# Altium footprint library to-case.PcbLib: 113 footprints (part 2 of 8)
Each footprint in its own frame and in the unit in brackets; x right, y up, seen from the top. Pads: shape width x height; smd on the part's side, far side on the other; paste and mask are expansions set on the pad; w line width, h text height; cw(c..) or ccw(c..) is an arc to the next point about the centre after c.
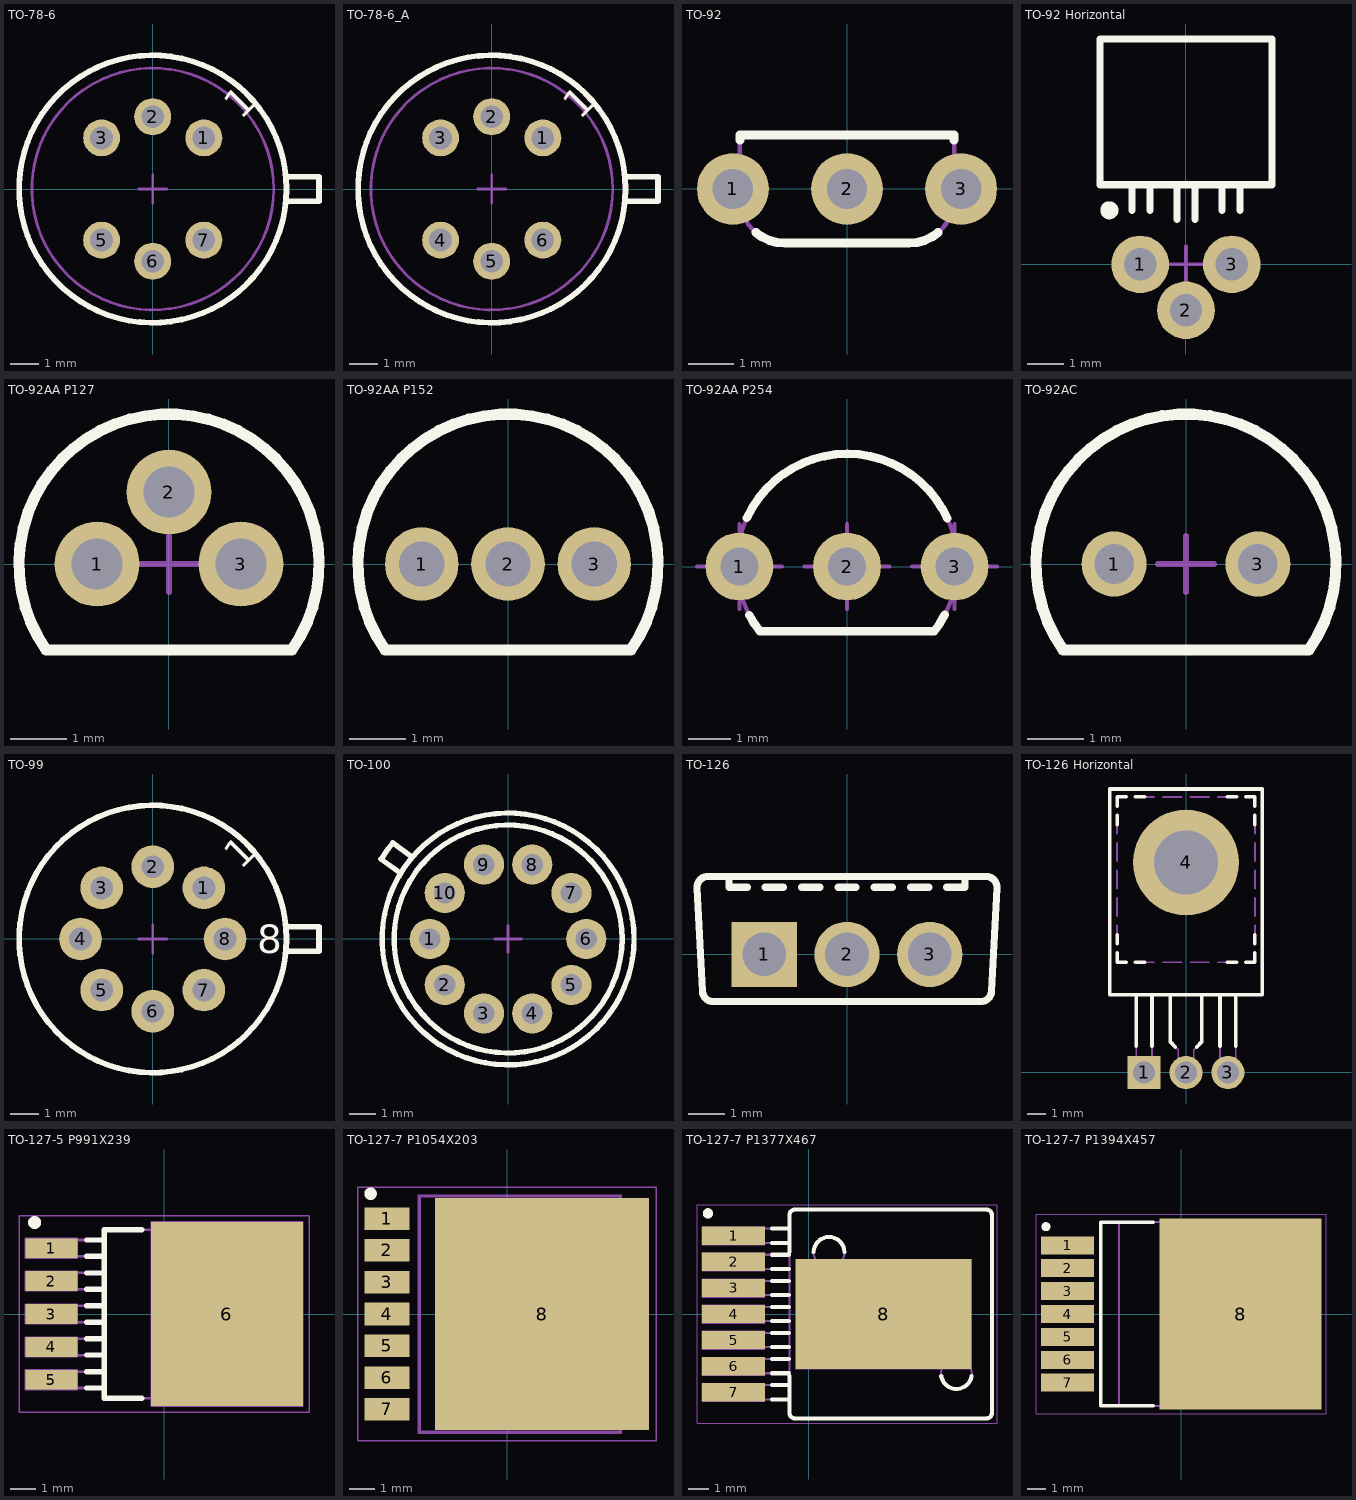
[diagram p1: the footprints below, top view; thin cyan lines are the x and y axes]

## TO-78-6 [mm] "TO-78 6 Leads(1, 2, 3, 5, 6, 7) , Body Dia. 9.4mm (max), Lead Diameter 5.08mm"
height 4.7
pads (6):
  round 1.3 hole 0.8: 1(1.796,1.796) 2(0,2.54) 3(-1.796,1.796) 5(-1.796,-1.796) 6(0,-2.54) 7(1.796,-1.796)
Top Overlay:
  circle w0.2: c0,0 r4.699
  lines w0.2: 4.679,-0.432 5.842,-0.432 5.842,0.432 4.679,0.432
  text "1" at 3.098,2.391 h1
Mechanical 1:
  circle w0.1: c0,0 r4.699
  circle w0.1: c0,0 r4.25
  lines w0.1: 4.679,-0.432 5.842,-0.432 5.842,0.432 4.679,0.432
  text "1" at 3.098,2.391 h1
Mechanical 15:
  circle w0.1: c0,0 r4.25
  circle w0.1: c0,0 r4.699
  lines w0.1: -0.5,0.001 0,0.001 ; 0,-0.499 0,0.001 ; 0,0.501 0,0.001 ; 0.5,0.001 0,0.001 ; 4.679,-0.432 5.842,-0.432 5.842,0.432 4.679,0.432
3D body "TO-78-6.stp": height 4.7, standoff -3.6, extent -4.695,-4.695 5.835,4.695

## TO-78-6_A [mm] "TO-78 6 Leads, Body Dia. 9.4mm (max), Lead Diameter 5.08mm"
height 4.7
pads (6):
  round 1.3 hole 0.8: 1(1.796,1.796) 2(0,2.54) 3(-1.796,1.796) 4(-1.796,-1.796) 5(0,-2.54) 6(1.796,-1.796)
Top Overlay:
  circle w0.2: c0,0 r4.699
  lines w0.2: 4.679,-0.432 5.842,-0.432 5.842,0.432 4.679,0.432
  text "1" at 3.098,2.391 h1
Mechanical 1:
  circle w0.1: c0,0 r4.25
  circle w0.1: c0,0 r4.699
  lines w0.1: 4.679,-0.432 5.842,-0.432 5.842,0.432 4.679,0.432
  text "1" at 3.098,2.391 h1
Mechanical 15:
  circle w0.1: c0,0 r4.25
  circle w0.1: c0,0 r4.699
  lines w0.1: -0.5,0 0,0 ; 0,-0.5 0,0 ; 0,0.5 0,0 ; 0.5,0 0,0 ; 4.679,-0.432 5.842,-0.432 5.842,0.432 4.679,0.432
3D body "TO-78-6.stp": height 4.7, standoff -3.6, extent -4.695,-4.695 5.835,4.695

## TO-92 [mm] "TO-92, Pitch 2.54mm, Flat Index, 3 In-Line, Bent Leads, Body 4.57 x 2.285mm"
height 8
pads (3):
  round 1.6 hole 0.9: 1(-2.54,0) 2(0,0) 3(2.54,0)
Top Overlay:
  lines w0.2: -2.385,1.089 -2.385,1.205 2.385,1.205 2.385,1.089 ; -2.026,-0.973 ccw(c-1.385,-0.205) -1.385,-1.205 1.385,-1.205 ccw(c1.385,-0.205) 2.026,-0.973
Mechanical 1:
  lines w0.1: -2.385,-0.205 ccw(c-1.385,-0.205) -1.385,-1.205 1.385,-1.205 ccw(c1.385,-0.205) 2.385,-0.205 2.385,1.205 -2.385,1.205 -2.385,-0.205
Mechanical 15:
  lines w0.1: -0.5,0 0,0 ; 0,-0.5 0,0 ; 0,0.5 0,0 ; 0.5,0 0,0 ; -2.385,-0.205 ccw(c-1.385,-0.205) -1.385,-1.205 1.385,-1.205 ccw(c1.385,-0.205) 2.385,-0.205 2.385,1.205 -2.385,1.205 -2.385,-0.205
3D body "IST_TO92.stp": height 8.01, standoff -3.2, extent -2.787,-1.205 2.788,1.205

## TO-92 Horizontal [mm] "TO-92, Pitch 2.54mm, Flat Index, 3 In-Line, Bent Leads, Body 4.57 x 2.285mm - Bent on the PCB"
height 2.14
pads (3):
  round 1.6 hole 0.9: 1(-1.27,0) 2(0,-1.27) 3(1.27,0)
Top Overlay:
  circle w0.25: c-2.125,1.5 r0.125
  lines w0.2: -2.385,6.215 -2.385,2.205 ; -2.385,6.25 2.385,6.25 ; -1.498,1.5 -1.498,2.205 ; -1.002,1.5 -1.002,2.205 ; -0.247,1.25 -0.247,2.205 ; 0.248,1.25 0.248,2.205 ; 1.002,1.5 1.002,2.205 ; 1.498,1.5 1.498,2.205 ; 2.385,6.215 2.385,2.205 ; -2.385,2.205 2.385,2.205 ; -2.385,2.205 2.385,2.205
Mechanical 1:
  lines w0.1: -1.498,1.5 -1.498,2.205 ; -1.002,1.5 -1.002,2.205 ; -0.248,1.25 -0.248,2.205 ; 0.248,1.25 0.248,2.205 ; 1.002,1.5 1.002,2.205 ; 1.498,1.5 1.498,2.205 ; -2.385,6.215 2.385,6.215 2.385,2.205 -2.385,2.205 -2.385,6.215 ; -2.385,6.215 -2.385,6.215
Mechanical 8:
  lines w0.1: -1.77,0 -1.27,0 ; -1.27,-0.5 -1.27,0 ; -1.27,0.5 -1.27,0 ; -0.77,0 -1.27,0 ; -0.5,-1.27 0,-1.27 ; 0,-1.77 0,-1.27 ; 0,-0.77 0,-1.27 ; 0.5,-1.27 0,-1.27
Mechanical 15:
  lines w0.1: -1.498,1.5 -1.498,2.205 ; -1.002,1.5 -1.002,2.205 ; -0.5,0 0,0 ; -0.247,1.25 -0.247,2.205 ; 0,-0.5 0,0 ; 0,0.5 0,0 ; 0.248,1.25 0.248,2.205 ; 0.5,0 0,0 ; 1.002,1.5 1.002,2.205 ; 1.498,1.5 1.498,2.205 ; -2.385,6.215 2.385,6.215 2.385,2.205 -2.385,2.205 -2.385,6.215 ; -2.385,6.215 -2.385,6.215
3D body "IST_TO92_a.stp": height 2.41, standoff -2.9, extent -2.385,-1.517 2.385,6.215

## TO-92AA P127 [mm] "TO-92 (TO-226),  Pitch 1.27mm, Flat Index, 3 In-Line, Axial Leads, Body Dia. 5.3mm, Leads Dia. 0.5mm (max)"
height 5.33
pads (3):
  round 1.5 hole 0.9: 1(-1.27,0) 2(0,1.27) 3(1.27,0)
Top Overlay:
  lines w0.2: -2.171,-1.52 cw(c0,0) 2.171,-1.52 -2.171,-1.52
Mechanical 1:
  lines w0.1: -2.171,-1.52 cw(c0,0) 2.171,-1.52 -2.171,-1.52
Mechanical 15:
  lines w0.1: -0.5,0 0,0 ; 0,-0.5 0,0 ; 0,0.5 0,0 ; 0.5,0 0,0 ; 2.171,-1.519 ccw(c0,0.001) -2.171,-1.519 2.171,-1.519
3D body "TO-92AA-P127.stp": height 9.33, standoff -3.2, extent -2.579,-1.53 2.579,2.638

## TO-92AA P152 [mm] "TO-92 (TO-226),  Pitch 1.524mm, Flat Index, 3 In-Line, Axial Leads, Body Dia. 5.3mm, Leads Dia. 0.5mm (max)"
height 5.33
pads (3):
  round 1.3 hole 0.8: 1(-1.524,0) 2(0,0) 3(1.524,0)
Top Overlay:
  lines w0.2: -2.171,-1.52 cw(c0,0) 2.171,-1.52 -2.171,-1.52
Mechanical 1:
  lines w0.1: -2.171,-1.52 cw(c0,0) 2.171,-1.52 -2.171,-1.52
Mechanical 15:
  lines w0.1: -2.171,-1.52 2.171,-1.52 ccw(c0,0) -2.171,-1.52 ; -0.5,0 0,0 ; 0,-0.5 0,0 ; 0,0.5 0,0 ; 0.5,0 0,0
3D body "TO-92AA-P152.stp": height 9.33, standoff -3.2, extent -2.587,-1.53 2.588,2.66

## TO-92AA P254 [mm] "TO-92 (TO226), Pitch 2.54mm, Flat Index, 3 In-Line, Bent Leads, Body Dia. 5.3mm"
height 9.33
pads (3):
  round 1.6 hole 0.9: 1(-2.54,0) 2(0,0) 3(2.54,0)
Top Overlay:
  lines w0.2: -2.363,1.145 cw(c0,0.059) 2.369,1.133 ; -2.302,-1.151 ccw(c0,0.059) -2.059,-1.53 2.059,-1.53 ccw(c0,0.059) 2.307,-1.141
Mechanical 1:
  lines w0.1: -2.059,-1.53 cw(c0,0.059) 2.059,-1.53 -2.059,-1.53
Mechanical 8:
  lines w0.1: -3.54,0 -2.54,0 ; -2.54,-1 -2.54,0 ; -2.54,1 -2.54,0 ; -1.54,0 -2.54,0 ; -1,0 0,0 ; 0,-1 0,0 ; 0,1 0,0 ; 1,0 0,0 ; 1.54,0 2.54,0 ; 2.54,-1 2.54,0 ; 2.54,1 2.54,0 ; 3.54,0 2.54,0
Mechanical 15:
  lines w0.1: -0.5,0 0,0 ; 0,-0.5 0,0 ; 0,0.5 0,0 ; 0.5,0 0,0 ; -2.059,-1.53 cw(c0,0.059) 2.059,-1.53 -2.059,-1.53
3D body "TO-92AA-P254.stp": height 9.33, standoff -3.2, extent -2.81,-1.53 2.81,2.638

## TO-92AC [mm] "TO-92 (TO-226), Flat Index, 2 In-Line, Pitch 2.54mm, Axial Leads, Body Dia. 5.3mm, Leads Dia. 0.5mm (max)"
height 5.33
pads (2):
  round 1.15 hole 0.7: 1(-1.27,0) 3(1.27,0)
Top Overlay:
  lines w0.2: -2.171,-1.52 cw(c0,0) 2.171,-1.52 -2.171,-1.52
Mechanical 1:
  lines w0.1: -2.171,-1.52 cw(c0,0) 2.171,-1.52 -2.171,-1.52
Mechanical 15:
  lines w0.1: -0.5,0 0,0 ; 0,-0.5 0,0 ; 0,0.5 0,0 ; 0.5,0 0,0 ; -2.171,-1.52 cw(c0,0) 2.171,-1.52 -2.171,-1.52
3D body "TO-92AC.stp": height 9.33, standoff -3.2, extent -2.659,-1.523 2.516,2.667

## TO-99 [mm] "TO-99, 8 Leads, Body Dia. 9.4mm (max)"
height 5.72
pads (8):
  round 1.5 hole 0.8: 1(1.796,1.796) 2(0,2.54) 3(-1.796,1.796) 4(-2.54,0) 5(-1.796,-1.796) 6(0,-2.54) 7(1.796,-1.796) 8(2.54,0)
Top Overlay:
  circle w0.2: c0,0 r4.699
  lines w0.2: 4.679,-0.432 5.842,-0.432 5.842,0.432 4.679,0.432
  text "8" at 3.667,-0.5 h1
  text "1" at 3.098,2.391 h1
Mechanical 1:
  circle w0.1: c0,0 r4.699
  lines w0.1: 4.679,-0.432 5.842,-0.432 5.842,0.432 4.679,0.432
Mechanical 15:
  circle w0.1: c-0.004,-0.001 r4.699
  lines w0.1: -0.5,0 0,0 ; 0,-0.5 0,0 ; 0,0.5 0,0 ; 0.5,0 0,0 ; 4.675,-0.433 5.838,-0.433 5.838,0.431 4.675,0.431
3D body "TO-99.stp": height 5.72, standoff -3.78, extent -4.7,-4.7 5.842,4.7

## TO-100 [mm] "TO-100, 10 Leads, Body Dia. 9.4mm (max)"
height 6.99
pads (10):
  round 1.5 hole 0.8: 1(-2.92,0) 2(-2.362,-1.716) 3(-0.902,-2.777) 4(0.902,-2.777) 5(2.362,-1.716) 6(2.92,0) 7(2.362,1.716) 8(0.902,2.777) 9(-0.902,2.777) 10(-2.362,1.716)
Top Overlay:
  circle w0.2: c0,0 r4.255
  circle w0.2: c0,0 r4.7
  lines w0.2: -4.747,2.985 -4.011,2.45 ; -4.737,2.978 cw(c0,0) -4.296,3.585 ; -4.306,3.592 -3.57,3.057
Mechanical 1:
  circle w0.1: c0,0 r4.255
  circle w0.1: c0,0 r4.7
  lines w0.1: -4.747,2.985 -4.011,2.45 cw(c0,0) -3.57,3.057 -4.306,3.592 ; -4.737,2.978 cw(c0,0) -4.296,3.585
Mechanical 8:
  lines w0.1: -3.42,0 -2.92,0 ; -2.92,-0.5 -2.92,0 ; -2.92,0.5 -2.92,0 ; -2.767,-2.01 -2.362,-1.716 ; -2.767,2.01 -2.362,1.716 ; -2.656,-1.312 -2.362,-1.716 ; -2.656,1.312 -2.362,1.716 ; -2.42,0 -2.92,0 ; -2.068,-2.121 -2.362,-1.716 ; -2.068,2.121 -2.362,1.716 ; -1.958,-1.422 -2.362,-1.716 ; -1.958,1.422 -2.362,1.716 ; -1.378,-2.623 -0.902,-2.777 ; -1.378,2.623 -0.902,2.777 ; -1.057,-3.253 -0.902,-2.777 ; -1.057,3.253 -0.902,2.777 ; -0.748,-2.302 -0.902,-2.777 ; -0.748,2.302 -0.902,2.777 ; -0.427,-2.932 -0.902,-2.777 ; -0.427,2.932 -0.902,2.777 ; 0.427,-2.932 0.902,-2.777 ; 0.427,2.932 0.902,2.777 ; 0.748,-2.302 0.902,-2.777 ; 0.748,2.302 0.902,2.777 ; 1.057,-3.253 0.902,-2.777 ; 1.057,3.253 0.902,2.777 ; 1.378,-2.623 0.902,-2.777 ; 1.378,2.623 0.902,2.777 ; 1.958,-1.422 2.362,-1.716 ; 1.958,1.422 2.362,1.716 ; 2.068,-2.121 2.362,-1.716 ; 2.068,2.121 2.362,1.716 ; 2.42,0 2.92,0 ; 2.656,-1.312 2.362,-1.716 ; 2.656,1.312 2.362,1.716 ; 2.767,-2.01 2.362,-1.716 ; 2.767,2.01 2.362,1.716 ; 2.92,-0.5 2.92,0 ; 2.92,0.5 2.92,0 ; 3.42,0 2.92,0
Mechanical 15:
  circle w0.1: c-0.005,-0.002 r4.7
  circle w0.1: c-0.005,-0.002 r4.255
  lines w0.1: -4.752,2.983 -4.016,2.448 cw(c-0.005,-0.002) -3.575,3.055 -4.311,3.59 ; -4.742,2.976 cw(c-0.005,-0.002) -4.301,3.583 ; -0.5,0 0,0 ; 0,-0.5 0,0 ; 0,0.5 0,0 ; 0.5,0 0,0
3D body "TO-100.stp": height 5.97, standoff -3.6, extent -4.737,-4.7 4.7,4.7

## TO-126 [mm] "TO-126 3-Terminal - Vertical Mount"
height 14.2
pads (3):
  rect 1.8x1.8 hole 1.2: 1(-2.28,0)
  round 1.8 hole 1.2: 2(0,0) 3(2.28,0)
Top Overlay:
  lines w0.2: -3.25,2.15 -3.25,1.85 -2.75,1.85 ; -2.25,1.85 -1.75,1.85 ; -1.25,1.85 -0.75,1.85 ; -0.25,1.85 0.25,1.85 ; 0.75,1.85 1.25,1.85 ; 1.75,1.85 2.25,1.85 ; 2.75,1.85 3.25,1.85 3.25,2.15 ; -4.133,1.834 cw(c-3.834,1.85) -3.834,2.15 3.834,2.15 cw(c3.834,1.85) 4.133,1.834 3.984,-1.016 cw(c3.685,-1) 3.685,-1.3 -3.685,-1.3 cw(c-3.685,-1) -3.984,-1.016 -4.133,1.834
Mechanical 1:
  lines w0.1: -3.25,2.15 -3.25,1.85 -2.75,1.85 ; -2.25,1.85 -1.75,1.85 ; -1.25,1.85 -0.75,1.85 ; -0.25,1.85 0.25,1.85 ; 0.75,1.85 1.25,1.85 ; 1.75,1.85 2.25,1.85 ; 2.75,1.85 3.25,1.85 3.25,2.15 ; -4.133,1.834 cw(c-3.834,1.85) -3.834,2.15 3.834,2.15 cw(c3.834,1.85) 4.133,1.834 3.984,-1.016 cw(c3.685,-1) 3.685,-1.3 -3.685,-1.3 cw(c-3.685,-1) -3.984,-1.016 -4.133,1.834
Mechanical 15:
  lines w0.05: -0.5,0 0.5,0 ; 0,-0.5 0,0.5
  lines w0.1: -3.25,2.15 -3.25,1.85 -2.75,1.85 ; -2.25,1.85 -1.75,1.85 ; -1.25,1.85 -0.75,1.85 ; -0.25,1.85 0.25,1.85 ; 0.75,1.85 1.25,1.85 ; 1.75,1.85 2.25,1.85 ; 2.75,1.85 3.25,1.85 3.25,2.15 ; -4.133,1.834 cw(c-3.834,1.85) -3.834,2.15 3.834,2.15 cw(c3.834,1.85) 4.133,1.834 3.984,-1.016 cw(c3.685,-1) 3.685,-1.3 -3.685,-1.3 cw(c-3.685,-1) -3.984,-1.016 -4.133,1.834
3D body "TO-126-V.stp": height 14.2, standoff -3.1, extent -4.134,-1.3 4.134,2.15

## TO-126 Horizontal [mm] "TO-126 3-Terminal - Horizontal Mount"
height 3.45
pads (4):
  rect 1.8x1.8 hole 1.2: 1(-2.28,0)
  round 1.8 hole 1.2: 2(0,0) 3(2.28,0)
  round 5.75 hole 3.5: 4(0,11.43)
Top Overlay:
  lines w0.2: -3.75,6.5 -3.75,6 -3.25,6 ; -3.75,7 -3.75,7.5 ; -3.75,13.5 -3.75,14 ; -3.75,14.5 -3.75,15 -3.25,15 ; -2.75,6 -2.25,6 ; -2.75,15 -2.25,15 ; -2.705,1.439 -2.705,4.23 ; -1.855,1.439 -1.855,4.23 ; -0.85,4.23 -0.85,1.655 -0.579,1.384 ; 0.579,1.384 0.85,1.655 0.85,4.23 ; 1.855,1.439 1.855,4.23 ; 2.25,6 2.75,6 ; 2.25,15 2.75,15 ; 2.705,1.439 2.705,4.23 ; 3.25,6 3.75,6 3.75,6.5 ; 3.25,15 3.75,15 3.75,14.5 ; 3.75,7 3.75,7.5 ; 3.75,13.5 3.75,14 ; -4.15,4.23 -4.15,15.43 4.15,15.43 4.15,4.23 -4.15,4.23
Mechanical 1:
  circle w0.1: c0,11.43 r1.75
  lines w0.1: -3.75,6.5 -3.75,6 -3.25,6 ; -3.75,7 -3.75,8 ; -3.75,8.5 -3.75,9.5 ; -3.75,10 -3.75,11 ; -3.75,11.5 -3.75,12.5 ; -3.75,13 -3.75,14 ; -3.75,14.5 -3.75,15 -3.25,15 ; -2.75,6 -1.75,6 ; -2.75,15 -1.75,15 ; -2.705,4.23 -2.705,0 -1.855,0 -1.855,4.23 ; -1.25,6 -0.25,6 ; -1.25,15 -0.25,15 ; -0.85,4.23 -0.85,1.655 -0.425,1.23 -0.425,0 0.425,0 0.425,1.23 0.85,1.655 0.85,4.23 ; 0.25,6 1.25,6 ; 0.25,15 1.25,15 ; 1.75,6 2.75,6 ; 1.75,15 2.75,15 ; 1.855,4.23 1.855,0 2.705,0 2.705,4.23 ; 3.25,6 3.75,6 3.75,6.5 ; 3.25,15 3.75,15 3.75,14.5 ; 3.75,7 3.75,8 ; 3.75,8.5 3.75,9.5 ; 3.75,10 3.75,11 ; 3.75,11.5 3.75,12.5 ; 3.75,13 3.75,14 ; -4.15,4.23 4.15,4.23 4.15,15.43 -4.15,15.43 -4.15,4.23
Mechanical 15:
  circle w0.1: c0,11.43 r1.75
  lines w0.05: -0.5,0 0.5,0 ; 0,-0.5 0,0.5
  lines w0.1: -3.75,6.5 -3.75,6 -3.25,6 ; -3.75,7 -3.75,8 ; -3.75,8.5 -3.75,9.5 ; -3.75,10 -3.75,11 ; -3.75,11.5 -3.75,12.5 ; -3.75,13 -3.75,14 ; -3.75,14.5 -3.75,15 -3.25,15 ; -2.75,6 -1.75,6 ; -2.75,15 -1.75,15 ; -2.705,4.23 -2.705,0 -1.855,0 -1.855,4.23 ; -1.25,6 -0.25,6 ; -1.25,15 -0.25,15 ; -0.85,4.23 -0.85,1.655 -0.425,1.23 -0.425,0 0.425,0 0.425,1.23 0.85,1.655 0.85,4.23 ; 0.25,6 1.25,6 ; 0.25,15 1.25,15 ; 1.75,6 2.75,6 ; 1.75,15 2.75,15 ; 1.855,4.23 1.855,0 2.705,0 2.705,4.23 ; 3.25,6 3.75,6 3.75,6.5 ; 3.25,15 3.75,15 3.75,14.5 ; 3.75,7 3.75,8 ; 3.75,8.5 3.75,9.5 ; 3.75,10 3.75,11 ; 3.75,11.5 3.75,12.5 ; 3.75,13 3.75,14 ; -4.15,4.23 -4.15,15.43 4.15,15.43 4.15,4.23 -4.15,4.23
3D body "TO-126-H.stp": height 3.45, standoff -3.1, extent -4.134,-0.3 4.134,15.43

## TO-127-5 P991X239 [mm] "TO-252 DPAK TO, 1.27mm Pitch; 5 Pin, 10.3mm L X 8.781mm W X 2.39mm H body"
height 2.39
pads (6):
  rect 2x0.76 smd: 1(-4.35,2.54) 2(-4.35,1.27) 3(-4.35,0) 4(-4.35,-1.27) 5(-4.35,-2.54)
  rect 5.85x7.1 smd: 6(2.425,0)
Top Overlay:
  circle w0.25: c-5,3.53 r0.125
  lines w0.2: -3,-2.855 -2.31,-2.855 ; -3,-2.225 -2.31,-2.225 ; -3,-1.585 -2.31,-1.585 ; -3,-0.955 -2.31,-0.955 ; -3,-0.315 -2.31,-0.315 ; -3,0.315 -2.31,0.315 ; -3,0.955 -2.31,0.955 ; -3,1.585 -2.31,1.585 ; -3,2.225 -2.31,2.225 ; -3,2.855 -2.31,2.855 ; -0.85,-3.25 -2.31,-3.25 -2.31,3.25 -0.85,3.25
Mechanical 1:
  lines w0.1: -2.31,-2.855 -4.901,-2.855 -4.901,-2.225 -2.31,-2.225 ; -2.31,-1.585 -4.901,-1.585 -4.901,-0.955 -2.31,-0.955 ; -2.31,-0.315 -4.901,-0.315 -4.901,0.315 -2.31,0.315 ; -2.31,0.955 -4.901,0.955 -4.901,1.585 -2.31,1.585 ; -2.31,2.225 -4.901,2.225 -4.901,2.855 -2.31,2.855 ; 3.851,-2.6 4.369,-2.6 4.901,-1.567 4.901,1.567 4.369,2.6 3.851,2.6 ; -2.31,-3.25 3.787,-3.25 3.851,-3.185 3.851,3.185 3.776,3.25 -2.31,3.25 -2.31,-3.25
Mechanical 8:
  lines w0.05: -0.5,0 0,0 ; 0,-0.5 0,0 ; 0,0.5 0,0 ; 0.5,0 0,0 ; -5.35,-2.92 -4.35,-2.54 -5.35,-2.16 ; -5.35,-2.92 -5.35,-2.16 ; -5.35,-2.92 -3.35,-2.92 -3.35,-2.16 -5.35,-2.16 ; -5.35,-1.65 -4.35,-1.27 -5.35,-0.89 ; -5.35,-1.65 -5.35,-0.89 ; -5.35,-1.65 -3.35,-1.65 -3.35,-0.89 -5.35,-0.89 ; -5.35,-0.38 -4.35,0 -5.35,0.38 ; -5.35,-0.38 -5.35,0.38 ; -5.35,-0.38 -3.35,-0.38 -3.35,0.38 -5.35,0.38 ; -5.35,0.89 -4.35,1.27 -5.35,1.65 ; -5.35,0.89 -5.35,1.65 ; -5.35,0.89 -3.35,0.89 -3.35,1.65 -5.35,1.65 ; -5.35,2.16 -4.35,2.54 -5.35,2.92 ; -5.35,2.16 -5.35,2.92 ; -5.35,2.16 -3.35,2.16 -3.35,2.92 -5.35,2.92 ; 5.35,-3.55 2.425,0 5.35,3.55 ; 5.35,-3.55 -0.5,-3.55 -0.5,3.55 5.35,3.55 ; 5.35,-3.55 5.35,3.55
Mechanical 15:
  circle w0.05: c0,0 r0.35
  lines w0.05: -0.5,0 0.5,0 ; 0,-0.5 0,0.5 ; -5.6,-3.8 5.6,-3.8 5.6,3.8 -5.6,3.8 -5.6,-3.8
3D body "TO127P991X239-6N-R585X701.stp": height 2.24, standoff -0.15, extent -4.901,-3.25 4.902,3.25

## TO-127-7 P1054X203 [mm] "TO127P1054X203-8N-R803X914"
height 2.03
pads (8):
  rect 1.8x0.9 smd: 1(-4.8,3.81) 2(-4.8,2.54) 3(-4.8,1.27) 4(-4.8,0) 5(-4.8,-1.27) 6(-4.8,-2.54) 7(-4.8,-3.81)
  rect 8.55x9.25 smd: 8(1.4,0)
Top Overlay:
  circle w0.25: c-5.45,4.8 r0.125
Top Paste:
  region: 3.1,1.82 4.86,1.82 4.86,3.82 3.1,3.82
  region: 0.52,1.82 2.28,1.82 2.28,3.82 0.52,3.82
  region: -2.06,1.82 -0.3,1.82 -0.3,3.82 -2.06,3.82
  region: 3.1,-1 4.86,-1 4.86,1 3.1,1
  region: 0.52,-1 2.28,-1 2.28,1 0.52,1
  region: -2.06,-1 -0.3,-1 -0.3,1 -2.06,1
  region: 3.1,-3.82 4.86,-3.82 4.86,-1.82 3.1,-1.82
  region: 0.52,-3.82 2.28,-3.82 2.28,-1.82 0.52,-1.82
  region: -2.06,-3.82 -0.3,-3.82 -0.3,-1.82 -2.06,-1.82
Mechanical 1:
  lines w0.1: 4.51,-4.508 4.761,-4.508 5.27,-3.944 5.27,3.943 4.761,4.507 4.51,4.507 ; -3.49,-4.698 -3.49,4.698 4.51,4.698 4.51,-4.698 -3.49,-4.698
Mechanical 8:
  lines w0.001: -3.555,-4.76 -3.555,4.76 4.575,4.76 4.575,-4.76 -3.555,-4.76
Mechanical 15:
  circle w0.05: c0,0 r0.35
  lines w0.05: -0.5,0 0.5,0 ; 0,-0.5 0,0.5 ; -5.95,-5.05 -5.95,5.05 5.95,5.05 5.95,-5.05 -5.95,-5.05
3D body "TO127P1054X203-8N-R803X914.stp": height 1.92, standoff 0, extent -5.226,-4.76 5.227,4.76

## TO-127-7 P1377X467 [mm] "DDPAK TO-263, TO, 1.27mm Pitch; 7 Pin, 13.77mm L X 10.16mm W X 4.67mm H body"
height 4.67
pads (8):
  rect 3.06x0.89 smd: 1(-3.652,3.81) 2(-3.652,2.54) 3(-3.652,1.27) 4(-3.652,0) 5(-3.652,-1.27) 6(-3.652,-2.54) 7(-3.652,-3.81)
  rect 8.54x5.35 smd: 8(3.652,0)
Top Overlay:
  circle w0.25: c-4.9,4.9 r0.125
  lines w0.2: -1.773,-4.155 -0.928,-4.155 ; -1.773,-3.465 -0.928,-3.465 ; -1.773,-2.885 -0.968,-2.885 ; -1.773,-2.195 -0.968,-2.195 ; -1.773,-1.615 -0.968,-1.615 ; -1.773,-0.925 -0.968,-0.925 ; -1.773,-0.345 -0.968,-0.345 ; -1.773,0.345 -0.968,0.345 ; -1.773,0.925 -0.968,0.925 ; -1.773,1.615 -0.968,1.615 ; -1.773,2.195 -0.968,2.195 ; -1.773,2.885 -0.968,2.885 ; -1.773,3.465 -0.928,3.465 ; -1.773,4.155 -0.928,4.155 ; -0.928,-3.025 -0.928,-4.832 ccw(c-0.678,-4.83) -0.681,-5.08 8.672,-5.08 ; -0.928,3.025 -0.928,4.83 ; -0.928,4.832 cw(c-0.678,4.83) -0.681,5.08 8.672,5.08 cw(c8.672,4.83) 8.922,4.832 ; 0.247,3.025 cw(c0.997,3) 1.746,3.025 ; 6.457,-3.025 ccw(c7.197,-2.9) 7.936,-3.025 ; 8.674,-5.08 ccw(c8.672,-4.83) 8.922,-4.832 ; 8.922,-4.83 8.922,4.83
Mechanical 1:
  circle w0.1: c7.197,-2.9 r0.75
  circle w0.1: c0.997,3 r0.75
  lines w0.1: -0.928,-4.155 -4.848,-4.155 -4.848,-3.465 -0.928,-3.465 ; -0.928,-2.885 -4.848,-2.885 -4.848,-2.195 -0.928,-2.195 ; -0.928,-1.615 -4.848,-1.615 -4.848,-0.925 -0.928,-0.925 ; -0.928,-0.345 -4.848,-0.345 -4.848,0.345 -0.928,0.345 ; -0.928,0.925 -4.848,0.925 -4.848,1.615 -0.928,1.615 ; -0.928,2.195 -4.848,2.195 -4.848,2.885 -0.928,2.885 ; -0.928,3.465 -4.848,3.465 -4.848,4.155 -0.928,4.155 ; -0.928,4.83 -0.928,-4.832 ccw(c-0.678,-4.83) -0.681,-5.08 8.672,-5.08 ; -0.928,4.832 cw(c-0.678,4.83) -0.681,5.08 8.672,5.08 cw(c8.672,4.83) 8.922,4.832 ; 8.674,-5.08 ccw(c8.672,-4.83) 8.922,-4.832 ; 8.922,-4.83 8.922,4.83
Mechanical 8:
  lines w0.05: -0.5,0 0,0 ; 0,-0.5 0,0 ; 0,0.5 0,0 ; 0.5,0 0,0 ; -5.182,-4.255 -3.652,-3.81 -5.182,-3.365 ; -5.182,-4.255 -5.182,-3.365 ; -5.182,-4.255 -2.123,-4.255 -2.123,-3.365 -5.182,-3.365 ; -5.182,-2.985 -3.652,-2.54 -5.182,-2.095 ; -5.182,-2.985 -5.182,-2.095 ; -5.182,-2.985 -2.123,-2.985 -2.123,-2.095 -5.182,-2.095 ; -5.182,-1.715 -3.652,-1.27 -5.182,-0.825 ; -5.182,-1.715 -5.182,-0.825 ; -5.182,-1.715 -2.123,-1.715 -2.123,-0.825 -5.182,-0.825 ; -5.182,-0.445 -3.652,0 -5.182,0.445 ; -5.182,-0.445 -5.182,0.445 ; -5.182,-0.445 -2.123,-0.445 -2.123,0.445 -5.182,0.445 ; -5.182,0.825 -3.652,1.27 -5.182,1.715 ; -5.182,0.825 -5.182,1.715 ; -5.182,0.825 -2.123,0.825 -2.123,1.715 -5.182,1.715 ; -5.182,2.095 -3.652,2.54 -5.182,2.985 ; -5.182,2.095 -5.182,2.985 ; -5.182,2.095 -2.123,2.095 -2.123,2.985 -5.182,2.985 ; -5.182,3.365 -3.652,3.81 -5.182,4.255 ; -5.182,3.365 -5.182,4.255 ; -5.182,3.365 -2.123,3.365 -2.123,4.255 -5.182,4.255 ; 7.922,-2.675 3.652,0 7.922,2.675 ; 7.922,-2.675 7.922,2.675 ; 7.922,-2.675 -0.617,-2.675 -0.617,2.675 7.922,2.675
Mechanical 15:
  lines w0.05: -0.5,0 0.5,0 ; 0,-0.5 0,0.5 ; -5.433,-5.33 9.172,-5.33 9.172,5.33 -5.433,5.33 -5.433,-5.33
3D body "TO127P1377X467-8N-R535X854.stp": height 4.77, standoff 0, extent -4.848,-5.08 8.922,5.08

## TO-127-7 P1394X457 [mm] "TO-263, 7 Leads, 1.70mm pitch; TO, 13.945mm L X 8.89mm W X 4.57mm H body IPC Medium Density"
height 4.57
pads (8):
  rect 2.95x1 smd: 1(-6.3,3.81) 2(-6.3,2.54) 3(-6.3,1.27) 4(-6.3,0) 5(-6.3,-1.27) 6(-6.3,-2.54) 7(-6.3,-3.81)
  rect 9x10.6 smd: 8(3.3,0)
Top Overlay:
  circle w0.25: c-7.5,4.85 r0.125
  lines w0.2: -1.55,-5.1 -4.45,-5.1 -4.45,5.1 -1.55,5.1
Top Paste:
  region: 5.74,3.3 7.1,3.3 7.1,4.7 5.74,4.7
  region: 3.66,3.3 5.02,3.3 5.02,4.7 3.66,4.7
  region: 1.58,3.3 2.94,3.3 2.94,4.7 1.58,4.7
  region: -0.5,3.3 0.86,3.3 0.86,4.7 -0.5,4.7
  region: 5.74,1.3 7.1,1.3 7.1,2.7 5.74,2.7
  region: 3.66,1.3 5.02,1.3 5.02,2.7 3.66,2.7
  region: 1.58,1.3 2.94,1.3 2.94,2.7 1.58,2.7
  region: -0.5,1.3 0.86,1.3 0.86,2.7 -0.5,2.7
  region: 5.74,-0.7 7.1,-0.7 7.1,0.7 5.74,0.7
  region: 3.66,-0.7 5.02,-0.7 5.02,0.7 3.66,0.7
  region: 1.58,-0.7 2.94,-0.7 2.94,0.7 1.58,0.7
  region: -0.5,-0.7 0.86,-0.7 0.86,0.7 -0.5,0.7
  region: 5.74,-2.7 7.1,-2.7 7.1,-1.3 5.74,-1.3
  region: 3.66,-2.7 5.02,-2.7 5.02,-1.3 3.66,-1.3
  region: 1.58,-2.7 2.94,-2.7 2.94,-1.3 1.58,-1.3
  region: -0.5,-2.7 0.86,-2.7 0.86,-1.3 -0.5,-1.3
  region: 5.74,-4.7 7.1,-4.7 7.1,-3.3 5.74,-3.3
  region: 3.66,-4.7 5.02,-4.7 5.02,-3.3 3.66,-3.3
  region: 1.58,-4.7 2.94,-4.7 2.94,-3.3 1.58,-3.3
  region: -0.5,-4.7 0.86,-4.7 0.86,-3.3 -0.5,-3.3
Mechanical 1:
  lines w0.1: 5.452,-5.112 5.954,-5.112 6.972,-3.984 6.972,3.985 5.954,5.113 5.452,5.113 ; -3.438,-5.11 -3.438,5.11 5.453,5.11 5.453,-5.11 -3.438,-5.11
Mechanical 15:
  lines w0.05: -0.5,0 0.5,0 ; 0,-0.5 0,0.5 ; -8.05,-5.55 -8.05,5.55 8.05,5.55 8.05,-5.55 -8.05,-5.55
3D body "TO127P1394X457-8N-R789X1054.stp": height 4.57, standoff 0, extent -7.068,-5.27 7.486,5.271